# Altium schematic symbol library nRF24L01.SchLib: 1 symbol
Pins are listed as number, name and electrical type; pins without a type are passive.

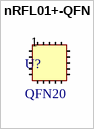
[diagram p0: symbol nRFL01+-QFN]

## nRFL01+-QFN
designator U?, comment QFN20
Nordic Semiconductor nRF24L01
pins: 1 CE, 2 ~{C}S, 3 SCK, 4 MOSI, 5 MISO, 6 IRQ, 7 VDD, 8 VSS, 9 XC2, 10 XC1, 11 VDD_PA, 12 ANT1, 13 ANT2, 14 VSS, 15 VDD, 16 IREF, 17 VSS, 18 VDD, 19 DVDD, 20 VSS